# Altium footprint library SW01.PcbLib: 1 footprints
Each footprint in its own frame and in the unit in brackets; x right, y up, seen from the top. Pads: shape width x height; smd on the part's side, far side on the other; paste and mask are expansions set on the pad; w line width, h text height; cw(c..) or ccw(c..) is an arc to the next point about the centre after c.
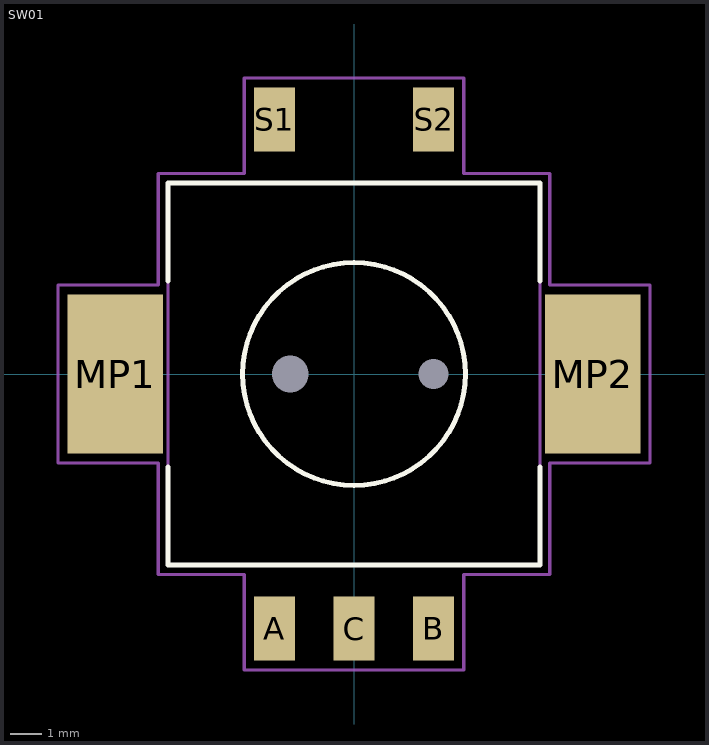
[diagram p0: the footprint, top view; thin cyan lines are the x and y axes]

## SW01 [mm]
height 9
pads (9):
  rect 0x0 hole 1.15 unplated: 0(-2,0)
  rect 0x0 hole 0.95 unplated: 0(2.5,0)
  rect 1.3x2 smd: A(-2.5,-8) B(2.5,-8) C(0,-8) S1(-2.5,8) S2(2.5,8)
  rect 3x5 smd: MP1(-7.5,0) MP2(7.5,0)
Top Overlay:
  circle w0.152: c0,0 r3.5
  lines w0.152: -5.85,-2.921 -5.85,-6 5.85,-6 5.85,-2.921 ; -5.85,2.921 -5.85,6 5.85,6 5.85,2.921
Mechanical 13:
  lines w0.1: -5.85,-6 -5.85,6 5.85,6 5.85,-6 -5.85,-6
Mechanical 15:
  lines w0.1: -6.15,2.794 -6.15,6.3 -3.45,6.3 -3.45,9.3 3.45,9.3 3.45,6.3 6.15,6.3 6.15,2.8 9.3,2.8 9.3,-2.8 6.15,-2.8 6.15,-6.3 3.45,-6.3 3.45,-9.3 -3.45,-9.3 -3.45,-6.3 -6.15,-6.3 -6.15,-2.8 -9.3,-2.8 -9.3,2.8 -6.15,2.8
3D body "零件_1-1.stp": height 9, standoff -0.2, extent -8,-8.75 8,8.75